# Altium integrated library StormNet Board Project.IntLib: 3 symbols
Pins are listed as number, name and electrical type; pins without a type are passive.

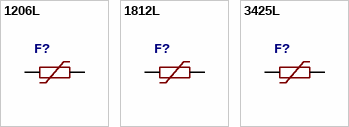
[diagram p0: symbols 1206L to 3425L]

## 1206L
designator F?
footprint 1206L
pins: P$1 1, P$2 2

## 1812L
designator F?
footprint 1812L
pins: P$1 1, P$2 2

## 3425L
designator F?
footprint 3425L
pins: P$1 1, P$2 2